# EAGLE library part SN75468 (library taki-library)
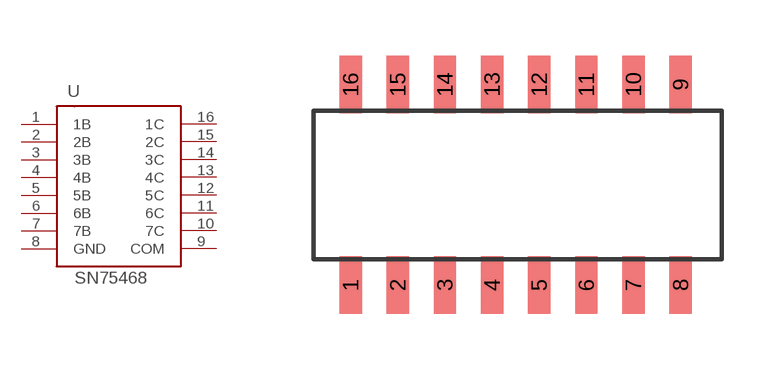
[diagram p19: symbol with the pads of R-PDSO-G16; footprint R-PDSO-G16]

Designator prefix U

## SN75468  [R-PDSO-G16]
1  1B
2  2B
3  3B
4  4B
5  5B
6  6B
7  7B
8  GND
9  COM
10  7C
11  6C
12  5C
13  4C
14  3C
15  2C
16  1C

## Footprint R-PDSO-G16 (pad centres in mm)
smd 0.6 x 1.55: 1 0,-2.7; 2 1.27,-2.7; 3 2.54,-2.7; 4 3.81,-2.7; 5 5.08,-2.7; 6 6.35,-2.7; 7 7.62,-2.7; 8 8.89,-2.7; 9 8.89,2.7; 10 7.62,2.7; 11 6.35,2.7; 12 5.08,2.7; 13 3.81,2.7; 14 2.54,2.7; 15 1.27,2.7; 16 0,2.7